# Altium footprint library DMI.PcbLib: 19 footprints (part 1 of 2)
Each footprint in its own frame and in the unit in brackets; x right, y up, seen from the top. Pads: shape width x height; smd on the part's side, far side on the other; paste and mask are expansions set on the pad; w line width, h text height; cw(c..) or ccw(c..) is an arc to the next point about the centre after c.
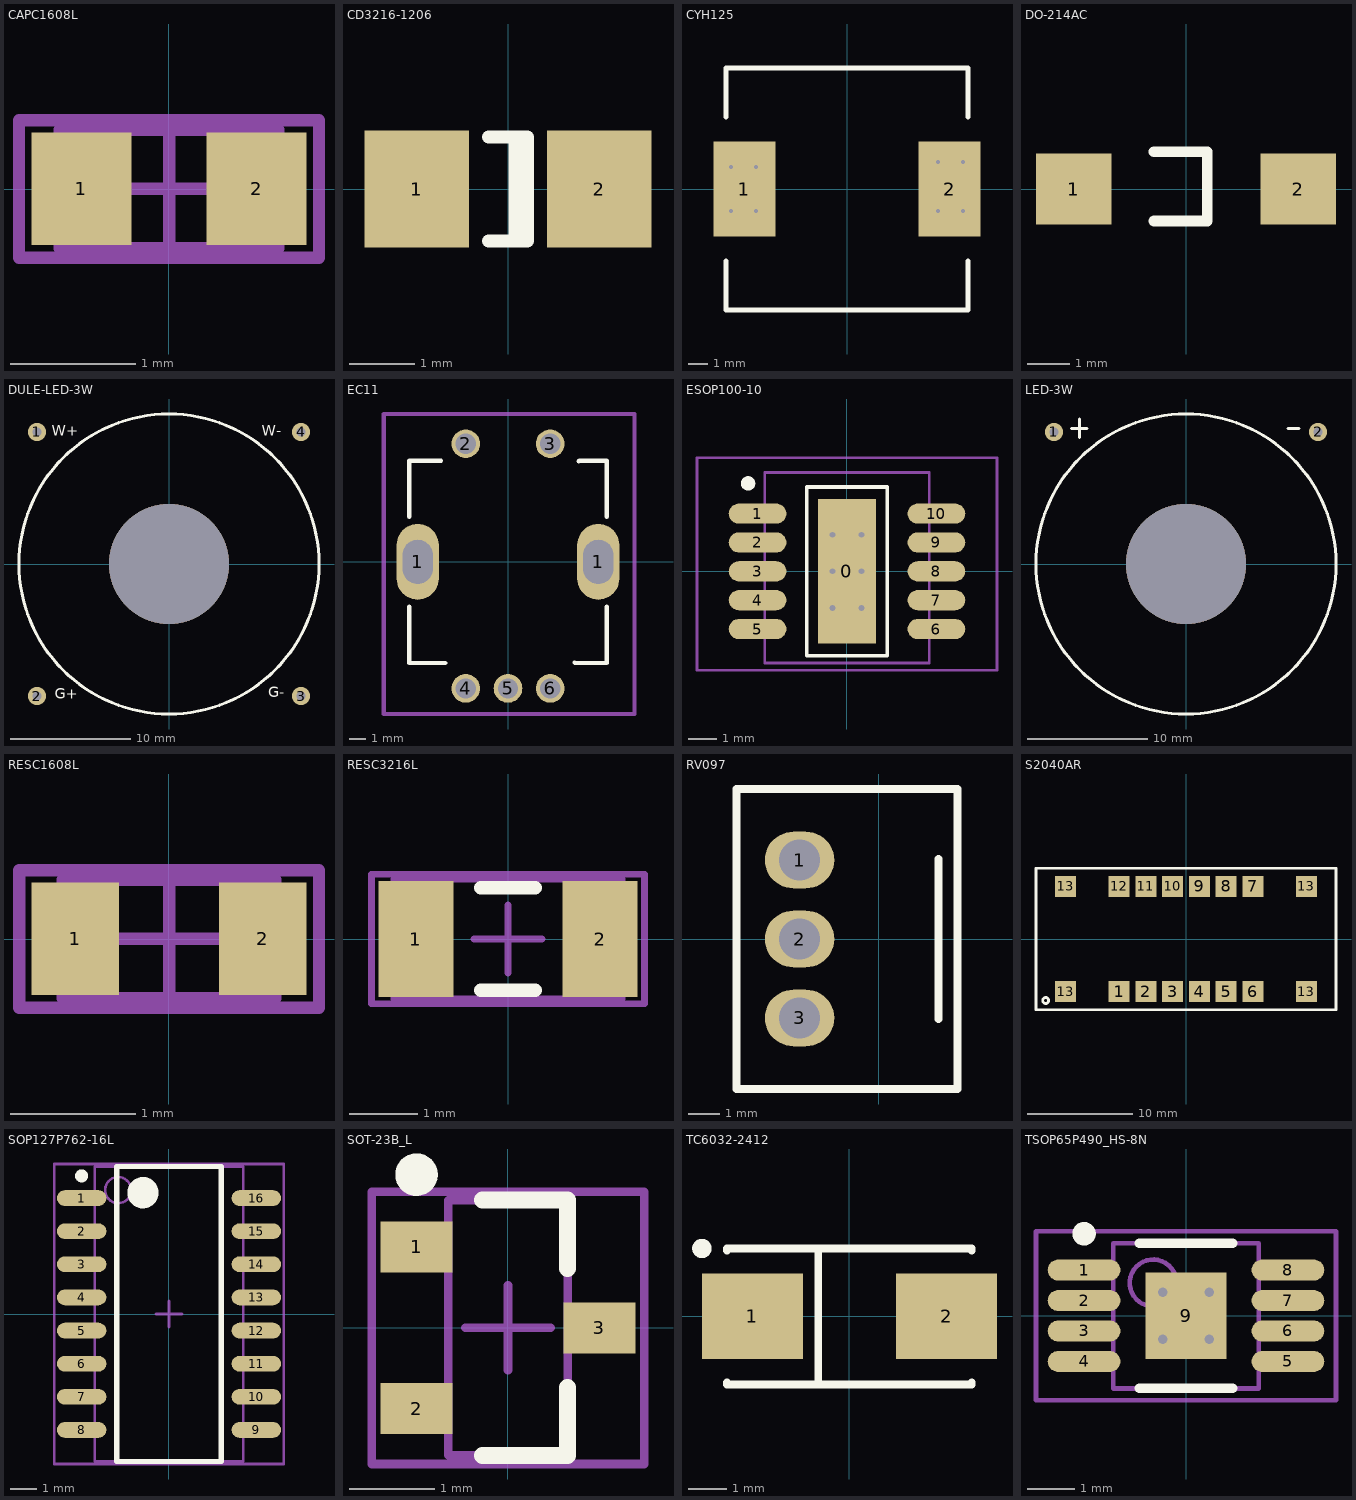
[diagram p0: the footprints below, top view; thin cyan lines are the x and y axes]

## CAPC1608L [mm] "Chip Capacitor, Body 1.6x0.8mm, IPC High Density"
height 0.85
pads (2):
  rect 0.8x0.9 smd: 1(-0.7,0) 2(0.7,0)
Mechanical 13:
  lines w0.1: -0.875,-0.475 -0.875,0.475 0.875,0.475 0.875,-0.475 -0.875,-0.475
Mechanical 15:
  lines w0.1: -0.475,0 0.475,0 ; 0,-0.475 0,0.475 ; -1.2,-0.55 -1.2,0.55 1.2,0.55 1.2,-0.55 -1.2,-0.55
3D body: height 0.85, standoff 0, extent -0.875,-0.475 0.875,0.475

## CD3216-1206 [mm] "Chip Diode; Body 3.2 x 1.6 mm (LxW typ)"
height 1.35
pads (2):
  rect 1.6x1.8 smd: 1(-1.4,0) 2(1.4,0)
Top Overlay:
  lines w0.2: -0.3,-0.8 0.3,-0.8 0.3,0.8 -0.3,0.8 ; 0.11,-0.8 0.11,0.8

## CYH125 [mm] "CYH125 Inductor"
pads (2):
  rect 3.2x4.9 smd: 1(-5.3,0) 2(5.3,0)
via 6,-1.14 diameter 0.4 hole 0.2
via 4.7,-1.14 diameter 0.4 hole 0.2
via 6,1.4 diameter 0.4 hole 0.2
via 4.7,1.4 diameter 0.4 hole 0.2
via -4.7,-1.14 diameter 0.4 hole 0.2
via -6,-1.14 diameter 0.4 hole 0.2
via -4.7,1.14 diameter 0.4 hole 0.2
via -6,1.14 diameter 0.4 hole 0.2
Top Overlay:
  lines w0.254: -6.25,-3.71 -6.25,-6.25 6.25,-6.25 6.25,-3.71 ; -6.25,3.71 -6.25,6.25 6.25,6.25 6.25,3.71
Bottom Solder:
  rectangle: -6.985,-2.54 -3.556,2.54
  rectangle: 3.556,-2.54 6.985,2.54

## DO-214AC [mm] "DO-214AC"
pads (2):
  rect 1.8x1.7 smd: 1(-2.67,0) 2(2.67,0)
Top Overlay:
  lines w0.254: -0.762,-0.762 0.508,-0.762 0.508,0.889 -0.762,0.889
3D body: height 2.5, standoff 0, extent -2.413,-1.397 2.413,1.397

## DULE-LED-3W [mil] "DULE-LED-3W"
pads (4):
  round 60 hole 30: 1(-433.07,433.07) 2(-433.07,-433.07) 3(433.07,-433.07) 4(433.07,433.07)
via 0,0 diameter 393.7 hole 393.7
Top Overlay:
  circle w10: c0,0 r492.13
  text "W+" at -385,410 h60
  text "W-" at 305,410 h60
  text "G+" at -375,-454.35 h60
  text "G-" at 325,-449.35 h60
Top Solder:
  circle w334.65: c0,0 r299.21
Bottom Solder:
  circle w393.7: c0,0 r137.8

## EC11 [mm] "EC11"
pads (7):
  oval 2.5x4.5 hole 1.8 slot 2.6 at 90 deg: 1(-5.35,0) 1(5.35,0)
  round 1.7 hole 1.2: 2(-2.5,7) 3(2.5,7) 4(-2.5,-7.5) 5(0,-7.5) 6(2.5,-7.5)
Top Overlay:
  lines w0.254: -5.85,-2.667 -5.85,-6 -3.714,-6 ; -5.85,2.667 -5.85,6 -3.968,6 ; 3.937,-5.969 3.968,-6 5.85,-6 5.85,-2.667 ; 4.191,5.969 4.222,6 5.85,6 5.85,2.667
Mechanical 15:
  lines w0.254: -7.366,-9.017 7.493,-9.017 7.493,8.763 -7.366,8.763 -7.366,-9.017
3D body: height 5, standoff 0, extent -5.842,-5.969 5.842,5.969

## ESOP100-10 [mm] "10-Pin Small Outline Package 1.00 mm Pitch and Pad"
height 2.2
pads (11):
  rect 2x5 smd: 0(0,0)
  oval 2x0.7 smd: 1(-3.1,2) 2(-3.1,1) 3(-3.1,0) 4(-3.1,-1) 5(-3.1,-2) 6(3.1,-2) 7(3.1,-1) 8(3.1,0) 9(3.1,1) 10(3.1,2)
via -0.5,-1.27 diameter 0.4 hole 0.2
via -0.5,1.27 diameter 0.4 hole 0.2
via -0.5,0 diameter 0.4 hole 0.2
via 0.5,-1.27 diameter 0.4 hole 0.2
via 0.5,1.27 diameter 0.4 hole 0.2
via 0.5,0 diameter 0.4 hole 0.2
Top Overlay:
  circle w0.25: c-3.429,3.048 r0.125
  lines w0.127: -1.397,-2.921 1.397,-2.921 1.397,2.921 -1.397,2.921 -1.397,-2.921
Mechanical 13:
  lines w0.1: -2.85,-3.175 2.85,-3.175 2.85,3.429 -2.85,3.429 -2.85,-3.175
Mechanical 15:
  lines w0.1: -0.5,0 0.5,0 ; 0,-0.5 0,0.5 ; -5.2,-3.429 5.2,-3.429 5.2,3.937 -5.2,3.937 -5.2,-3.429
3D body: height 2.2, standoff 0, extent -2.85,-3.175 2.85,3.429

## LED-3W [mil]
pads (2):
  round 60 hole 30: 1(-433.07,433.07) 2(433.07,433.07)
via 0,0 diameter 393.7 hole 393.7
Top Overlay:
  circle w10: c0,0 r492.13
  lines w10: -375,445 -325,445 ; -350,415 -350,475 ; 335,445 370,445

## RESC1608L [mm] "Chip Resistor, Body 1.6x0.8mm, IPC High Density"
height 0.6
pads (2):
  rect 0.7x0.9 smd: 1(-0.75,0) 2(0.75,0)
Mechanical 13:
  lines w0.1: -0.85,-0.475 -0.85,0.475 0.85,0.475 0.85,-0.475 -0.85,-0.475
Mechanical 15:
  lines w0.1: -0.475,0 0.475,0 ; 0,-0.475 0,0.475 ; -1.2,-0.55 -1.2,0.55 1.2,0.55 1.2,-0.55 -1.2,-0.55
3D body: height 0.6, standoff 0, extent -0.85,-0.475 0.85,0.475

## RESC3216L [mm] "Chip Resistor, Body 3.2x1.6mm, IPC High Density"
height 0.71
pads (2):
  rect 1.1x1.7 smd: 1(-1.35,0) 2(1.35,0)
Top Overlay:
  lines w0.2: -0.4,-0.75 0.4,-0.75 ; -0.4,0.75 0.4,0.75
Mechanical 13:
  lines w0.1: -1.675,-0.875 -1.675,0.875 1.675,0.875 1.675,-0.875 -1.675,-0.875
Mechanical 15:
  lines w0.1: -0.5,0 0.5,0 ; 0,-0.5 0,0.5 ; -2,-0.95 -2,0.95 2,0.95 2,-0.95 -2,-0.95
3D body: height 0.71, standoff 0, extent -1.675,-0.875 1.675,0.875

## RV097 [mm] "RV097"
pads (3):
  oval 2.2x1.8 hole 1.3: 1(-2.5,2.5) 2(-2.5,0) 3(-2.5,-2.5)
Top Overlay:
  lines w0.254: 1.905,-2.54 1.905,2.54 ; -4.5,-4.75 2.5,-4.75 2.5,4.75 -4.5,4.75 -4.5,-4.75

## S2040AR [mm] "S2040AR"
pads (16):
  rect 2x2 smd: 1(-6.35,-5) 2(-3.81,-5) 3(-1.27,-5) 4(1.27,-5) 5(3.81,-5) 6(6.35,-5) 7(6.35,5) 8(3.81,5) 9(1.27,5) 10(-1.27,5) 11(-3.81,5) 12(-6.35,5) 13(-11.43,-5) 13(-11.43,5) 13(11.43,-5) 13(11.43,5)
Top Overlay:
  circle w0.254: c-13.335,-5.842 r0.284
  lines w0.254: -14.25,-6.731 -14.25,6.731 14.25,6.731 14.25,-6.731 -14.25,-6.731
3D body: height 3, standoff 0, extent -14.351,-5.207 14.224,5.207

## SOP127P762-16L [mm] "16-Pin Small Outline Package 1.27 mm Pitch"
height 2.2
pads (16):
  oval 1.9x0.6 smd: 1(-3.35,4.445) 2(-3.35,3.175) 3(-3.35,1.905) 4(-3.35,0.635) 5(-3.35,-0.635) 6(-3.35,-1.905) 7(-3.35,-3.175) 8(-3.35,-4.445) 9(3.35,-4.445) 10(3.35,-3.175) 11(3.35,-1.905) 12(3.35,-0.635) 13(3.35,0.635) 14(3.35,1.905) 15(3.35,3.175) 16(3.35,4.445)
Top Overlay:
  circle w0.25: c-3.35,5.295 r0.125
  circle w0.6: c-1,4.65 r0.3
  lines w0.2: -2,-5.65 -2,5.65 2,5.65 2,-5.65 -2,-5.65
Mechanical 13:
  circle w0.1: c-1.95,4.75 r0.5
  lines w0.1: -2.85,-5.65 -2.85,5.65 2.85,5.65 2.85,-5.65 -2.85,-5.65
Mechanical 15:
  lines w0.1: -0.5,0 0.5,0 ; 0,-0.5 0,0.5 ; -4.4,-5.75 -4.4,5.75 4.4,5.75 4.4,-5.75 -4.4,-5.75
3D body: height 2.2, standoff 0, extent -2.85,-5.65 2.85,5.65

## SOT-23B_L [mm] "SOT23, 3-Leads, Body 2.9x1.3mm, Pitch 0.95mm, Lead Span 2.4mm, IPC High Density"
height 1.14
pads (3):
  rect 0.85x0.6 smd: 1(-1.075,0.95) 2(-1.075,-0.95) 3(1.075,0)
Top Overlay:
  circle w0.25: c-1.075,1.8 r0.125
  lines w0.2: -0.3,-1.5 0.7,-1.5 0.7,-0.7 ; -0.3,1.5 0.7,1.5 0.7,0.7
Mechanical 13:
  lines w0.1: -0.7,-1.5 -0.7,1.5 0.7,1.5 0.7,-1.5 -0.7,-1.5
Mechanical 15:
  lines w0.1: -0.5,0 0.5,0 ; 0,-0.5 0,0.5 ; -1.6,-1.6 -1.6,1.6 1.6,1.6 1.6,-1.6 -1.6,-1.6
3D body: height 1.14, standoff 0, extent -0.7,-1.5 0.7,1.5

## TC6032-2412 [mm] "Capacitor, SM Tantalum; Body 6.0 x 3.2 mm (LxW typ)"
height 3.4
pads (2):
  rect 2.6x2.2 smd: 1(-2.5,0) 2(2.5,0)
Top Overlay:
  circle w0.25: c-3.8,1.75 r0.125
  lines w0.2: -3.15,-1.7 -3.15,-1.75 3.15,-1.75 3.15,-1.7 ; -3.15,1.7 -3.15,1.75 3.15,1.75 3.15,1.7 ; -0.8,-1.75 -0.8,1.75
3D body: height 3, standoff 0, extent -3.048,-1.651 3.175,1.651

## TSOP65P490_HS-8N [mm] "TSOP, 8-Leads, Body 3x3mm, Pitch 0.65mm, Exposed Pad, IPC Medium Density"
height 1.09
pads (9):
  oval 1.55x0.45 smd: 1(-2.175,0.975) 2(-2.175,0.325) 3(-2.175,-0.325) 4(-2.175,-0.975) 5(2.175,-0.975) 6(2.175,-0.325) 7(2.175,0.325) 8(2.175,0.975)
  rect 1.73x1.85 smd: 9(0,0)
via -0.5,0.5 diameter 0.4 hole 0.2
via 0.5,0.5 diameter 0.4 hole 0.2
via -0.5,-0.5 diameter 0.4 hole 0.2
via 0.5,-0.5 diameter 0.4 hole 0.2
Top Overlay:
  circle w0.25: c-2.175,1.75 r0.125
  lines w0.2: -1,-1.55 1,-1.55 ; -1,1.55 1,1.55
Bottom Solder:
  rectangle: -1.016,-1.016 1.016,1.016
Mechanical 13:
  circle w0.1: c-0.7,0.7 r0.5
  lines w0.1: -1.55,-1.55 -1.55,1.55 1.55,1.55 1.55,-1.55 -1.55,-1.55
Mechanical 15:
  lines w0.1: -0.5,0 0.5,0 ; 0,-0.5 0,0.5 ; -3.2,-1.8 -3.2,1.8 3.2,1.8 3.2,-1.8 -3.2,-1.8
3D body: height 1.09, standoff 0, extent -1.549,-1.549 1.549,1.549